# Altium footprint library 贴片.PcbLib: 190 footprints (part 6 of 13)
Each footprint in its own frame and in the unit in brackets; x right, y up, seen from the top. Pads: shape width x height; smd on the part's side, far side on the other; paste and mask are expansions set on the pad; w line width, h text height; cw(c..) or ccw(c..) is an arc to the next point about the centre after c.
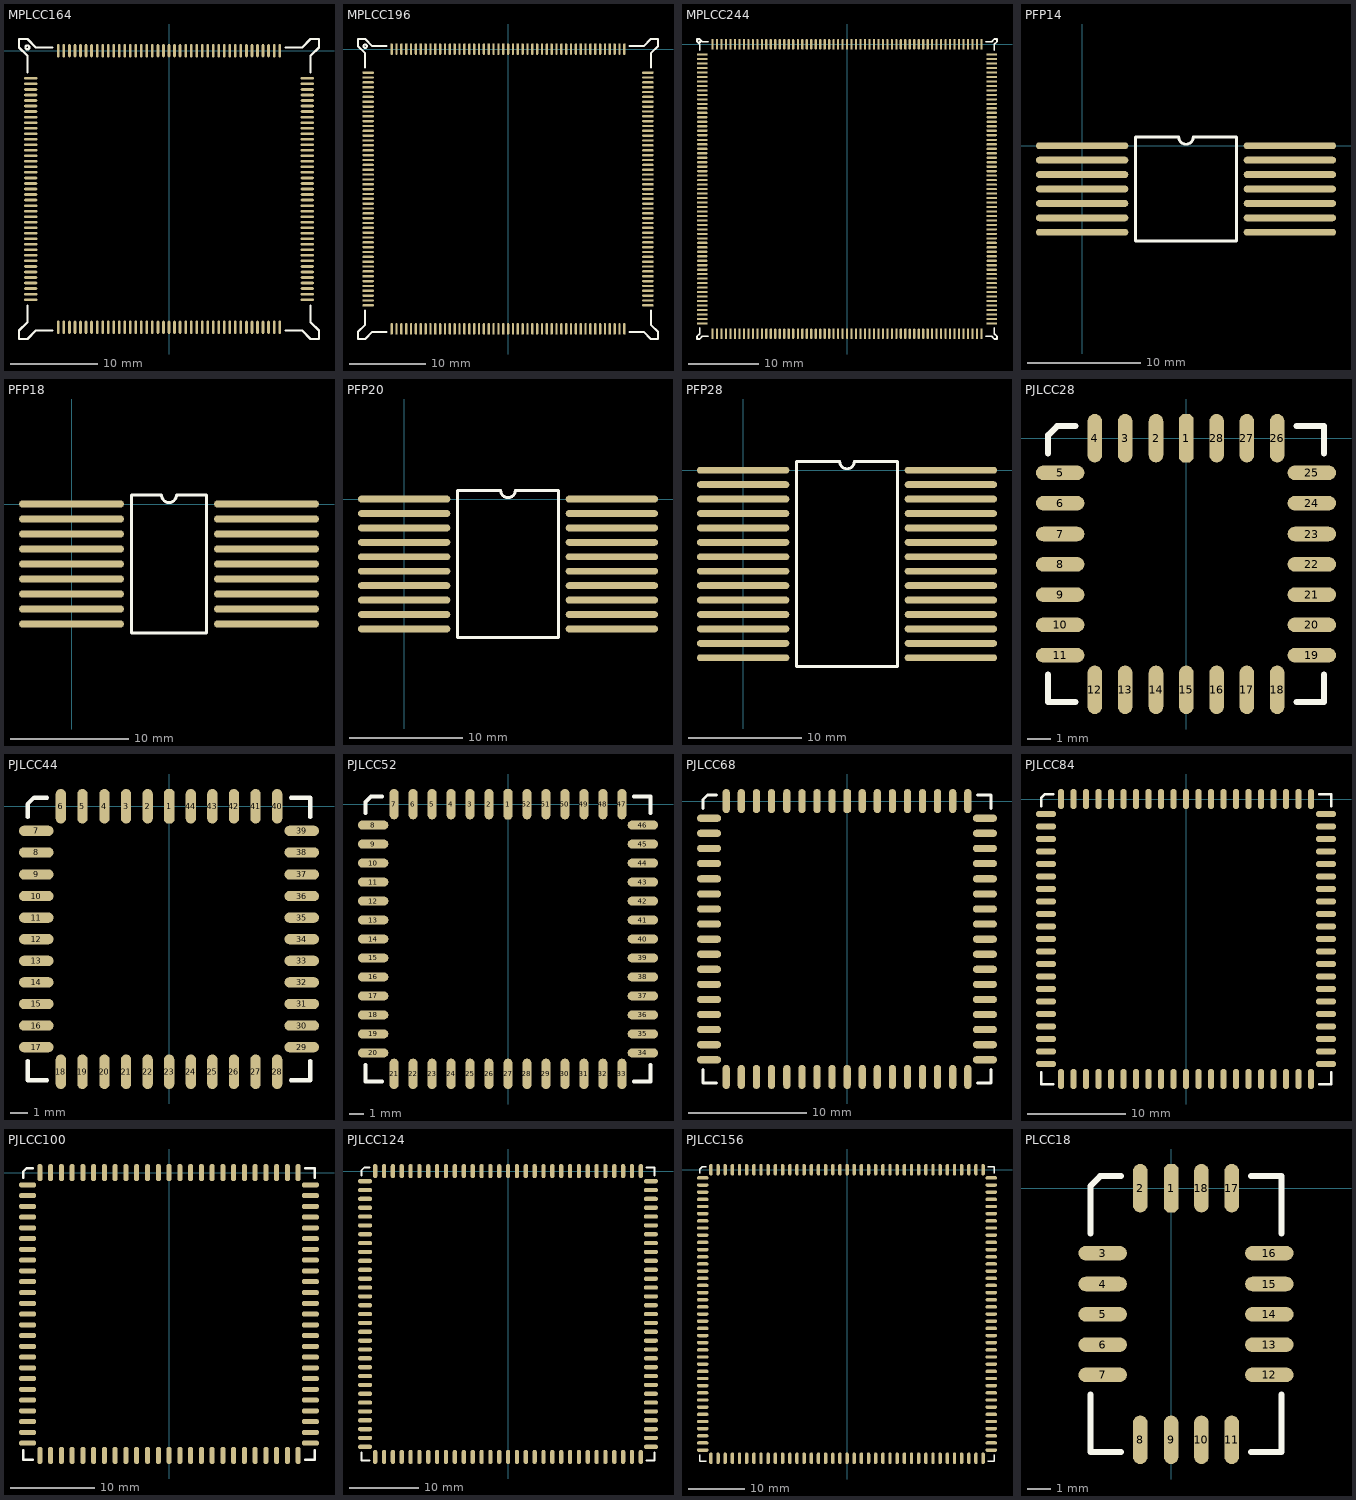
[diagram p5: the footprints below, top view; thin cyan lines are the x and y axes]

## MPLCC164 [mil]
pads (164):
  oval 12x60 smd: 1(0,0) 2(-25,0) 3(-50,0) 4(-75,0) 5(-100,0) 6(-125,0) 7(-150,0) 8(-175,0) 9(-200,0) 10(-225,0) 11(-250,0) 12(-275,0) 13(-300,0) 14(-325,0) 15(-350,0) 16(-375,0) 17(-400,0) 18(-425,0) 19(-450,0) 20(-475,0) 21(-500,0) 63(-500,-1250) 64(-475,-1250) 65(-450,-1250) 66(-425,-1250) 67(-400,-1250) 68(-375,-1250) 69(-350,-1250) 70(-325,-1250) 71(-300,-1250) 72(-275,-1250) 73(-250,-1250) 74(-225,-1250) 75(-200,-1250) 76(-175,-1250) 77(-150,-1250) 78(-125,-1250) 79(-100,-1250) 80(-75,-1250) 81(-50,-1250) 82(-25,-1250) 83(0,-1250) 84(25,-1250) 85(50,-1250) 86(75,-1250) 87(100,-1250) 88(125,-1250) 89(150,-1250) 90(175,-1250) 91(200,-1250) 92(225,-1250) 93(250,-1250) 94(275,-1250) 95(300,-1250) 96(325,-1250) 97(350,-1250) 98(375,-1250) 99(400,-1250) 100(425,-1250) 101(450,-1250) 102(475,-1250) 103(500,-1250) 145(500,0) 146(475,0) 147(450,0) 148(425,0) 149(400,0) 150(375,0) 151(350,0) 152(325,0) 153(300,0) 154(275,0) 155(250,0) 156(225,0) 157(200,0) 158(175,0) 159(150,0) 160(125,0) 161(100,0) 162(75,0) 163(50,0) 164(25,0)
  oval 60x12 smd: 22(-625,-125) 23(-625,-150) 24(-625,-175) 25(-625,-200) 26(-625,-225) 27(-625,-250) 28(-625,-275) 29(-625,-300) 30(-625,-325) 31(-625,-350) 32(-625,-375) 33(-625,-400) 34(-625,-425) 35(-625,-450) 36(-625,-475) 37(-625,-500) 38(-625,-525) 39(-625,-550) 40(-625,-575) 41(-625,-600) 42(-625,-625) 43(-625,-650) 44(-625,-675) 45(-625,-700) 46(-625,-725) 47(-625,-750) 48(-625,-775) 49(-625,-800) 50(-625,-825) 51(-625,-850) 52(-625,-875) 53(-625,-900) 54(-625,-925) 55(-625,-950) 56(-625,-975) 57(-625,-1000) 58(-625,-1025) 59(-625,-1050) 60(-625,-1075) 61(-625,-1100) 62(-625,-1125) 104(625,-1125) 105(625,-1100) 106(625,-1075) 107(625,-1050) 108(625,-1025) 109(625,-1000) 110(625,-975) 111(625,-950) 112(625,-925) 113(625,-900) 114(625,-875) 115(625,-850) 116(625,-825) 117(625,-800) 118(625,-775) 119(625,-750) 120(625,-725) 121(625,-700) 122(625,-675) 123(625,-650) 124(625,-625) 125(625,-600) 126(625,-575) 127(625,-550) 128(625,-525) 129(625,-500) 130(625,-475) 131(625,-450) 132(625,-425) 133(625,-400) 134(625,-375) 135(625,-350) 136(625,-325) 137(625,-300) 138(625,-275) 139(625,-250) 140(625,-225) 141(625,-200) 142(625,-175) 143(625,-150) 144(625,-125)
TopOverlay:
  circle w10: c-640,15 r9
  lines w10: -640,-1151 -640,-1227 -678,-1265 -678,-1303 -640,-1303 -602,-1265 -526,-1265 ; -640,-99 -640,-23 -678,15 -678,53 -640,53 -602,15 -526,15 ; 526,-1265 602,-1265 640,-1303 678,-1303 678,-1265 640,-1227 640,-1151 ; 526,15 602,15 640,53 678,53 678,15 640,-23 640,-99

## MPLCC196 [mil]
pads (196):
  oval 12x60 smd: 1(0,0) 2(-25,0) 3(-50,0) 4(-75,0) 5(-100,0) 6(-125,0) 7(-150,0) 8(-175,0) 9(-200,0) 10(-226,0) 11(-251,0) 12(-276,0) 13(-301,0) 14(-326,0) 15(-351,0) 16(-376,0) 17(-401,0) 18(-426,0) 19(-451,0) 20(-476,0) 21(-501,0) 22(-526,0) 23(-551,0) 24(-576,0) 25(-601,0) 75(-601,-1445) 76(-576,-1445) 77(-551,-1445) 78(-526,-1445) 79(-501,-1445) 80(-476,-1445) 81(-451,-1445) 82(-426,-1445) 83(-401,-1445) 84(-376,-1445) 85(-351,-1445) 86(-326,-1445) 87(-301,-1445) 88(-276,-1445) 89(-251,-1445) 90(-226,-1445) 91(-200,-1445) 92(-175,-1445) 93(-150,-1445) 94(-125,-1445) 95(-100,-1445) 96(-75,-1445) 97(-50,-1445) 98(-25,-1445) 99(0,-1445) 100(25,-1445) 101(50,-1445) 102(75,-1445) 103(100,-1445) 104(125,-1445) 105(150,-1445) 106(175,-1445) 107(200,-1445) 108(225,-1445) 109(250,-1445) 110(275,-1445) 111(300,-1445) 112(325,-1445) 113(350,-1445) 114(375,-1445) 115(400,-1445) 116(425,-1445) 117(450,-1445) 118(475,-1445) 119(500,-1445) 120(525,-1445) 121(550,-1445) 122(575,-1445) 123(600,-1445) 173(600,0) 174(575,0) 175(550,0) 176(525,0) 177(500,0) 178(475,0) 179(450,0) 180(425,0) 181(400,0) 182(375,0) 183(350,0) 184(325,0) 185(300,0) 186(275,0) 187(250,0) 188(225,0) 189(200,0) 190(175,0) 191(150,0) 192(125,0) 193(100,0) 194(75,0) 195(50,0) 196(25,0)
  oval 60x12 smd: 26(-723,-122) 27(-723,-147) 28(-723,-172) 29(-723,-197) 30(-723,-222) 31(-723,-247) 32(-723,-272) 33(-723,-297) 34(-723,-322) 35(-723,-347) 36(-723,-372) 37(-723,-397) 38(-723,-422) 39(-723,-447) 40(-723,-472) 41(-723,-497) 42(-723,-523) 43(-723,-548) 44(-723,-573) 45(-723,-598) 46(-723,-623) 47(-723,-648) 48(-723,-673) 49(-723,-698) 50(-723,-723) 51(-723,-748) 52(-723,-773) 53(-723,-798) 54(-723,-823) 55(-723,-848) 56(-723,-873) 57(-723,-898) 58(-723,-923) 59(-723,-948) 60(-723,-973) 61(-723,-998) 62(-723,-1023) 63(-723,-1048) 64(-723,-1073) 65(-723,-1098) 66(-723,-1123) 67(-723,-1148) 68(-723,-1173) 69(-723,-1198) 70(-723,-1223) 71(-723,-1248) 72(-723,-1273) 73(-723,-1298) 74(-723,-1323) 124(722,-1323) 125(722,-1298) 126(722,-1273) 127(722,-1248) 128(722,-1223) 129(722,-1198) 130(722,-1173) 131(722,-1148) 132(722,-1123) 133(722,-1098) 134(722,-1073) 135(722,-1048) 136(722,-1023) 137(722,-998) 138(722,-973) 139(722,-948) 140(722,-923) 141(722,-898) 142(722,-873) 143(722,-848) 144(722,-823) 145(722,-798) 146(722,-773) 147(722,-748) 148(722,-723) 149(722,-698) 150(722,-673) 151(722,-648) 152(722,-623) 153(722,-598) 154(722,-573) 155(722,-548) 156(722,-523) 157(722,-497) 158(722,-472) 159(722,-447) 160(722,-422) 161(722,-397) 162(722,-372) 163(722,-347) 164(722,-322) 165(722,-297) 166(722,-272) 167(722,-247) 168(722,-222) 169(722,-197) 170(722,-172) 171(722,-147) 172(722,-122)
TopOverlay:
  circle w10: c-738,15 r9
  lines w10: -738,-1349 -738,-1423 -775,-1460 -775,-1497 -738,-1497 -701,-1460 -627,-1460 ; -738,-96 -738,-22 -775,15 -775,52 -738,52 -701,15 -627,15 ; 626,-1460 700,-1460 737,-1497 774,-1497 774,-1460 737,-1423 737,-1349 ; 626,15 700,15 737,52 774,52 774,15 737,-22 737,-96

## MPLCC244 [mil]
pads (244):
  oval 12x60 smd: 1(0,0) 2(-25,0) 3(-50,0) 4(-75,0) 5(-100,0) 6(-125,0) 7(-150,0) 8(-175,0) 9(-200,0) 10(-225,0) 11(-250,0) 12(-275,0) 13(-301,0) 14(-326,0) 15(-351,0) 16(-376,0) 17(-401,0) 18(-426,0) 19(-451,0) 20(-476,0) 21(-501,0) 22(-526,0) 23(-551,0) 24(-576,0) 25(-601,0) 26(-626,0) 27(-651,0) 28(-676,0) 29(-701,0) 30(-726,0) 31(-751,0) 93(-751,-1615) 94(-726,-1615) 95(-701,-1615) 96(-676,-1615) 97(-651,-1615) 98(-626,-1615) 99(-601,-1615) 100(-576,-1615) 101(-551,-1615) 102(-526,-1615) 103(-501,-1615) 104(-476,-1615) 105(-451,-1615) 106(-426,-1615) 107(-401,-1615) 108(-376,-1615) 109(-351,-1615) 110(-326,-1615) 111(-301,-1615) 112(-275,-1615) 113(-250,-1615) 114(-225,-1615) 115(-200,-1615) 116(-175,-1615) 117(-150,-1615) 118(-125,-1615) 119(-100,-1615) 120(-75,-1615) 121(-50,-1615) 122(-25,-1615) 123(0,-1615) 124(25,-1615) 125(50,-1615) 126(75,-1615) 127(100,-1615) 128(125,-1615) 129(150,-1615) 130(175,-1615) 131(200,-1615) 132(225,-1615) 133(250,-1615) 134(275,-1615) 135(300,-1615) 136(325,-1615) 137(350,-1615) 138(375,-1615) 139(400,-1615) 140(425,-1615) 141(450,-1615) 142(475,-1615) 143(500,-1615) 144(525,-1615) 145(550,-1615) 146(575,-1615) 147(600,-1615) 148(625,-1615) 149(650,-1615) 150(675,-1615) 151(700,-1615) 152(725,-1615) 153(750,-1615) 215(750,0) 216(725,0) 217(700,0) 218(675,0) 219(650,0) 220(625,0) 221(600,0) 222(575,0) 223(550,0) 224(525,0) 225(500,0) 226(475,0) 227(450,0) 228(425,0) 229(400,0) 230(375,0) 231(350,0) 232(325,0) 233(300,0) 234(275,0) 235(250,0) 236(225,0) 237(200,0) 238(175,0) 239(150,0) 240(125,0) 241(100,0) 242(75,0) 243(50,0) 244(25,0)
  oval 60x12 smd: 32(-808,-57) 33(-808,-82) 34(-808,-107) 35(-808,-132) 36(-808,-157) 37(-808,-182) 38(-808,-207) 39(-808,-232) 40(-808,-257) 41(-808,-282) 42(-808,-307) 43(-808,-332) 44(-808,-357) 45(-808,-382) 46(-808,-407) 47(-808,-432) 48(-808,-457) 49(-808,-482) 50(-808,-507) 51(-808,-533) 52(-808,-558) 53(-808,-583) 54(-808,-608) 55(-808,-633) 56(-808,-658) 57(-808,-683) 58(-808,-708) 59(-808,-733) 60(-808,-758) 61(-808,-783) 62(-808,-808) 63(-808,-833) 64(-808,-858) 65(-808,-883) 66(-808,-908) 67(-808,-933) 68(-808,-958) 69(-808,-983) 70(-808,-1008) 71(-808,-1033) 72(-808,-1058) 73(-808,-1083) 74(-808,-1108) 75(-808,-1133) 76(-808,-1158) 77(-808,-1183) 78(-808,-1208) 79(-808,-1233) 80(-808,-1258) 81(-808,-1283) 82(-808,-1308) 83(-808,-1333) 84(-808,-1358) 85(-808,-1383) 86(-808,-1408) 87(-808,-1433) 88(-808,-1458) 89(-808,-1483) 90(-808,-1508) 91(-808,-1533) 92(-808,-1558) 154(807,-1558) 155(807,-1533) 156(807,-1508) 157(807,-1483) 158(807,-1458) 159(807,-1433) 160(807,-1408) 161(807,-1383) 162(807,-1358) 163(807,-1333) 164(807,-1308) 165(807,-1283) 166(807,-1258) 167(807,-1233) 168(807,-1208) 169(807,-1183) 170(807,-1158) 171(807,-1133) 172(807,-1108) 173(807,-1083) 174(807,-1058) 175(807,-1033) 176(807,-1008) 177(807,-983) 178(807,-958) 179(807,-933) 180(807,-908) 181(807,-883) 182(807,-858) 183(807,-833) 184(807,-808) 185(807,-783) 186(807,-758) 187(807,-733) 188(807,-708) 189(807,-683) 190(807,-658) 191(807,-633) 192(807,-608) 193(807,-583) 194(807,-558) 195(807,-533) 196(807,-507) 197(807,-482) 198(807,-457) 199(807,-432) 200(807,-407) 201(807,-382) 202(807,-357) 203(807,-332) 204(807,-307) 205(807,-282) 206(807,-257) 207(807,-232) 208(807,-207) 209(807,-182) 210(807,-157) 211(807,-132) 212(807,-107) 213(807,-82) 214(807,-57)
TopOverlay:
  circle w10: c-823,15 r3
  lines w10: -823,-1584 -823,-1615 -838,-1630 -838,-1645 -823,-1645 -808,-1630 -777,-1630 ; -823,-31 -823,0 -838,15 -838,30 -823,30 -808,15 -777,15 ; 776,-1630 807,-1630 822,-1645 837,-1645 837,-1630 822,-1615 822,-1584 ; 776,15 807,15 822,30 837,30 837,15 822,0 822,-31

## PFP14 [mil]
pads (14):
  oval 320x24 smd: 1(0,0) 2(0,-50) 3(0,-100) 4(0,-150) 5(0,-200) 6(0,-250) 7(0,-300) 8(720,-300) 9(720,-250) 10(720,-200) 11(720,-150) 12(720,-100) 13(720,-50) 14(720,0)
TopOverlay:
  lines w10: 185,-330 185,30 335,30 ccw(c360,30) 385,30 535,30 535,-330 185,-330

## PFP18 [mil]
pads (18):
  oval 350x24 smd: 1(0,0) 2(0,-50) 3(0,-100) 4(0,-150) 5(0,-200) 6(0,-250) 7(0,-300) 8(0,-350) 9(0,-400) 10(650,-400) 11(650,-350) 12(650,-300) 13(650,-250) 14(650,-200) 15(650,-150) 16(650,-100) 17(650,-50) 18(650,0)
TopOverlay:
  lines w10: 200,-430 200,30 300,30 ccw(c325,30) 350,30 450,30 450,-430 200,-430

## PFP20 [mil]
pads (20):
  oval 320x24 smd: 1(0,0) 2(0,-50) 3(0,-100) 4(0,-150) 5(0,-200) 6(0,-250) 7(0,-300) 8(0,-350) 9(0,-400) 10(0,-450) 11(720,-450) 12(720,-400) 13(720,-350) 14(720,-300) 15(720,-250) 16(720,-200) 17(720,-150) 18(720,-100) 19(720,-50) 20(720,0)
TopOverlay:
  lines w10: 185,-480 185,30 335,30 ccw(c360,30) 385,30 535,30 535,-480 185,-480

## PFP28 [mil]
pads (28):
  oval 320x24 smd: 1(0,0) 2(0,-50) 3(0,-100) 4(0,-150) 5(0,-200) 6(0,-250) 7(0,-300) 8(0,-350) 9(0,-400) 10(0,-450) 11(0,-500) 12(0,-550) 13(0,-600) 14(0,-650) 15(720,-650) 16(720,-600) 17(720,-550) 18(720,-500) 19(720,-450) 20(720,-400) 21(720,-350) 22(720,-300) 23(720,-250) 24(720,-200) 25(720,-150) 26(720,-100) 27(720,-50) 28(720,0)
TopOverlay:
  lines w10: 185,-680 535,-680 535,30 385,30 cw(c360,30) 335,30 185,30 185,-680

## PJLCC28 [mil]
pads (28):
  oct 24x80 smd: 1(0,0)
  oval 24x80 smd: 2(-50,0) 3(-101,0) 4(-151,0) 12(-151,-415) 13(-101,-415) 14(-50,-415) 15(0,-415) 16(50,-415) 17(100,-415) 18(150,-415) 26(150,0) 27(100,0) 28(50,0)
  oval 80x24 smd: 5(-208,-57) 6(-208,-107) 7(-208,-158) 8(-208,-208) 9(-208,-258) 10(-208,-308) 11(-208,-358) 19(207,-358) 20(207,-308) 21(207,-258) 22(207,-208) 23(207,-158) 24(207,-107) 25(207,-57)
TopOverlay:
  lines w10: -228,-390 -228,-435 -183,-435 ; -228,-25 -228,5 -213,20 -183,20 ; 182,-435 227,-435 227,-390 ; 182,20 227,20 227,-25

## PJLCC44 [mil]
pads (44):
  oct 24x80 smd: 1(0,0)
  oval 24x80 smd: 2(-50,0) 3(-100,0) 4(-150,0) 5(-201,0) 6(-251,0) 18(-251,-615) 19(-201,-615) 20(-150,-615) 21(-100,-615) 22(-50,-615) 23(0,-615) 24(50,-615) 25(100,-615) 26(150,-615) 27(200,-615) 28(250,-615) 40(250,0) 41(200,0) 42(150,0) 43(100,0) 44(50,0)
  oval 80x24 smd: 7(-308,-57) 8(-308,-107) 9(-308,-158) 10(-308,-208) 11(-308,-258) 12(-308,-308) 13(-308,-358) 14(-308,-408) 15(-308,-458) 16(-308,-508) 17(-308,-558) 29(307,-558) 30(307,-508) 31(307,-458) 32(307,-408) 33(307,-358) 34(307,-308) 35(307,-258) 36(307,-208) 37(307,-158) 38(307,-107) 39(307,-57)
TopOverlay:
  lines w10: -328,-590 -328,-635 -283,-635 ; -328,-25 -328,5 -313,20 -283,20 ; 282,-635 327,-635 327,-590 ; 282,20 327,20 327,-25

## PJLCC52 [mil]
pads (52):
  oct 24x80 smd: 1(0,0)
  oval 24x80 smd: 2(-50,0) 3(-100,0) 4(-150,0) 5(-200,0) 6(-250,0) 7(-300,0) 21(-300,-710) 22(-250,-710) 23(-200,-710) 24(-150,-710) 25(-100,-710) 26(-50,-710) 27(0,-710) 28(50,-710) 29(100,-710) 30(150,-710) 31(200,-710) 32(250,-710) 33(300,-710) 47(300,0) 48(250,0) 49(200,0) 50(150,0) 51(100,0) 52(50,0)
  oval 80x24 smd: 8(-355,-55) 9(-355,-105) 10(-355,-155) 11(-355,-205) 12(-355,-255) 13(-355,-305) 14(-355,-355) 15(-355,-405) 16(-355,-455) 17(-355,-505) 18(-355,-555) 19(-355,-605) 20(-355,-655) 34(355,-655) 35(355,-605) 36(355,-555) 37(355,-505) 38(355,-455) 39(355,-405) 40(355,-355) 41(355,-305) 42(355,-255) 43(355,-205) 44(355,-155) 45(355,-105) 46(355,-55)
TopOverlay:
  lines w10: -375,-687 -375,-730 -332,-730 ; -375,-23 -375,6 -361,20 -332,20 ; 332,-730 375,-730 375,-687 ; 332,20 375,20 375,-23

## PJLCC68 [mil]
pads (68):
  oct 24x80 smd: 1(0,0)
  oval 24x80 smd: 2(-50,0) 3(-100,0) 4(-150,0) 5(-200,0) 6(-251,0) 7(-301,0) 8(-351,0) 9(-401,0) 27(-401,-915) 28(-351,-915) 29(-301,-915) 30(-251,-915) 31(-200,-915) 32(-150,-915) 33(-100,-915) 34(-50,-915) 35(0,-915) 36(50,-915) 37(100,-915) 38(150,-915) 39(200,-915) 40(250,-915) 41(300,-915) 42(350,-915) 43(400,-915) 61(400,0) 62(350,0) 63(300,0) 64(250,0) 65(200,0) 66(150,0) 67(100,0) 68(50,0)
  oval 80x24 smd: 10(-458,-57) 11(-458,-107) 12(-458,-157) 13(-458,-207) 14(-458,-258) 15(-458,-308) 16(-458,-358) 17(-458,-408) 18(-458,-458) 19(-458,-508) 20(-458,-558) 21(-458,-608) 22(-458,-658) 23(-458,-708) 24(-458,-758) 25(-458,-808) 26(-458,-858) 44(457,-858) 45(457,-808) 46(457,-758) 47(457,-708) 48(457,-658) 49(457,-608) 50(457,-558) 51(457,-508) 52(457,-458) 53(457,-408) 54(457,-358) 55(457,-308) 56(457,-258) 57(457,-207) 58(457,-157) 59(457,-107) 60(457,-57)
TopOverlay:
  lines w10: -478,-890 -478,-935 -433,-935 ; -478,-25 -478,5 -463,20 -433,20 ; 432,-935 477,-935 477,-890 ; 432,20 477,20 477,-25

## PJLCC84 [mil]
pads (84):
  oct 24x80 smd: 1(0,0)
  oval 24x80 smd: 2(-50,0) 3(-100,0) 4(-150,0) 5(-200,0) 6(-250,0) 7(-300,0) 8(-350,0) 9(-400,0) 10(-450,0) 11(-500,0) 33(-500,-1120) 34(-450,-1120) 35(-400,-1120) 36(-350,-1120) 37(-300,-1120) 38(-250,-1120) 39(-200,-1120) 40(-150,-1120) 41(-100,-1120) 42(-50,-1120) 43(0,-1120) 44(50,-1120) 45(100,-1120) 46(150,-1120) 47(200,-1120) 48(250,-1120) 49(300,-1120) 50(350,-1120) 51(400,-1120) 52(450,-1120) 53(500,-1120) 75(500,0) 76(450,0) 77(400,0) 78(350,0) 79(300,0) 80(250,0) 81(200,0) 82(150,0) 83(100,0) 84(50,0)
  oval 80x24 smd: 12(-560,-60) 13(-560,-110) 14(-560,-160) 15(-560,-210) 16(-560,-260) 17(-560,-310) 18(-560,-360) 19(-560,-410) 20(-560,-460) 21(-560,-510) 22(-560,-560) 23(-560,-610) 24(-560,-660) 25(-560,-710) 26(-560,-760) 27(-560,-810) 28(-560,-860) 29(-560,-910) 30(-560,-960) 31(-560,-1010) 32(-560,-1060) 54(560,-1060) 55(560,-1010) 56(560,-960) 57(560,-910) 58(560,-860) 59(560,-810) 60(560,-760) 61(560,-710) 62(560,-660) 63(560,-610) 64(560,-560) 65(560,-510) 66(560,-460) 67(560,-410) 68(560,-360) 69(560,-310) 70(560,-260) 71(560,-210) 72(560,-160) 73(560,-110) 74(560,-60)
TopOverlay:
  lines w10: -580,-1092 -580,-1140 -532,-1140 ; -580,-28 -580,4 -564,20 -532,20 ; 532,-1140 580,-1140 580,-1092 ; 532,20 580,20 580,-28

## PJLCC100 [mil]
pads (100):
  oct 24x80 smd: 1(0,0)
  oval 24x80 smd: 2(-50,0) 3(-100,0) 4(-151,0) 5(-201,0) 6(-251,0) 7(-301,0) 8(-351,0) 9(-401,0) 10(-451,0) 11(-501,0) 12(-551,0) 13(-601,0) 39(-601,-1315) 40(-551,-1315) 41(-501,-1315) 42(-451,-1315) 43(-401,-1315) 44(-351,-1315) 45(-301,-1315) 46(-251,-1315) 47(-201,-1315) 48(-151,-1315) 49(-100,-1315) 50(-50,-1315) 51(0,-1315) 52(50,-1315) 53(100,-1315) 54(150,-1315) 55(200,-1315) 56(250,-1315) 57(300,-1315) 58(350,-1315) 59(400,-1315) 60(450,-1315) 61(500,-1315) 62(550,-1315) 63(600,-1315) 89(600,0) 90(550,0) 91(500,0) 92(450,0) 93(400,0) 94(350,0) 95(300,0) 96(250,0) 97(200,0) 98(150,0) 99(100,0) 100(50,0)
  oval 80x24 smd: 14(-658,-57) 15(-658,-107) 16(-658,-157) 17(-658,-207) 18(-658,-257) 19(-658,-307) 20(-658,-357) 21(-658,-407) 22(-658,-457) 23(-658,-507) 24(-658,-558) 25(-658,-608) 26(-658,-658) 27(-658,-708) 28(-658,-758) 29(-658,-808) 30(-658,-858) 31(-658,-908) 32(-658,-958) 33(-658,-1008) 34(-658,-1058) 35(-658,-1108) 36(-658,-1158) 37(-658,-1208) 38(-658,-1258) 64(657,-1258) 65(657,-1208) 66(657,-1158) 67(657,-1108) 68(657,-1058) 69(657,-1008) 70(657,-958) 71(657,-908) 72(657,-858) 73(657,-808) 74(657,-758) 75(657,-708) 76(657,-658) 77(657,-608) 78(657,-558) 79(657,-507) 80(657,-457) 81(657,-407) 82(657,-357) 83(657,-307) 84(657,-257) 85(657,-207) 86(657,-157) 87(657,-107) 88(657,-57)
TopOverlay:
  lines w10: -678,-1290 -678,-1335 -633,-1335 ; -678,-25 -678,5 -663,20 -633,20 ; 632,-1335 677,-1335 677,-1290 ; 632,20 677,20 677,-25

## PJLCC124 [mil]
pads (124):
  oct 24x80 smd: 1(0,0)
  oval 24x80 smd: 2(-50,0) 3(-100,0) 4(-150,0) 5(-200,0) 6(-250,0) 7(-301,0) 8(-351,0) 9(-401,0) 10(-451,0) 11(-501,0) 12(-551,0) 13(-601,0) 14(-651,0) 15(-701,0) 16(-751,0) 48(-751,-1615) 49(-701,-1615) 50(-651,-1615) 51(-601,-1615) 52(-551,-1615) 53(-501,-1615) 54(-451,-1615) 55(-401,-1615) 56(-351,-1615) 57(-301,-1615) 58(-250,-1615) 59(-200,-1615) 60(-150,-1615) 61(-100,-1615) 62(-50,-1615) 63(0,-1615) 64(50,-1615) 65(100,-1615) 66(150,-1615) 67(200,-1615) 68(250,-1615) 69(300,-1615) 70(350,-1615) 71(400,-1615) 72(450,-1615) 73(500,-1615) 74(550,-1615) 75(600,-1615) 76(650,-1615) 77(700,-1615) 78(750,-1615) 110(750,0) 111(700,0) 112(650,0) 113(600,0) 114(550,0) 115(500,0) 116(450,0) 117(400,0) 118(350,0) 119(300,0) 120(250,0) 121(200,0) 122(150,0) 123(100,0) 124(50,0)
  oval 80x24 smd: 17(-808,-57) 18(-808,-107) 19(-808,-157) 20(-808,-207) 21(-808,-257) 22(-808,-307) 23(-808,-357) 24(-808,-407) 25(-808,-457) 26(-808,-507) 27(-808,-558) 28(-808,-608) 29(-808,-658) 30(-808,-708) 31(-808,-758) 32(-808,-808) 33(-808,-858) 34(-808,-908) 35(-808,-958) 36(-808,-1008) 37(-808,-1058) 38(-808,-1108) 39(-808,-1158) 40(-808,-1208) 41(-808,-1258) 42(-808,-1308) 43(-808,-1358) 44(-808,-1408) 45(-808,-1458) 46(-808,-1508) 47(-808,-1558) 79(807,-1558) 80(807,-1508) 81(807,-1458) 82(807,-1408) 83(807,-1358) 84(807,-1308) 85(807,-1258) 86(807,-1208) 87(807,-1158) 88(807,-1108) 89(807,-1058) 90(807,-1008) 91(807,-958) 92(807,-908) 93(807,-858) 94(807,-808) 95(807,-758) 96(807,-708) 97(807,-658) 98(807,-608) 99(807,-558) 100(807,-507) 101(807,-457) 102(807,-407) 103(807,-357) 104(807,-307) 105(807,-257) 106(807,-207) 107(807,-157) 108(807,-107) 109(807,-57)
TopOverlay:
  lines w10: -828,-1590 -828,-1635 -783,-1635 ; -828,-25 -828,5 -813,20 -783,20 ; 782,-1635 827,-1635 827,-1590 ; 782,20 827,20 827,-25

## PJLCC156 [mil]
pads (156):
  oct 24x80 smd: 1(0,0)
  oval 24x80 smd: 2(-50,0) 3(-100,0) 4(-150,0) 5(-200,0) 6(-250,0) 7(-300,0) 8(-350,0) 9(-400,0) 10(-450,0) 11(-501,0) 12(-551,0) 13(-601,0) 14(-651,0) 15(-701,0) 16(-751,0) 17(-801,0) 18(-851,0) 19(-901,0) 20(-951,0) 60(-951,-2015) 61(-901,-2015) 62(-851,-2015) 63(-801,-2015) 64(-751,-2015) 65(-701,-2015) 66(-651,-2015) 67(-601,-2015) 68(-551,-2015) 69(-501,-2015) 70(-450,-2015) 71(-400,-2015) 72(-350,-2015) 73(-300,-2015) 74(-250,-2015) 75(-200,-2015) 76(-150,-2015) 77(-100,-2015) 78(-50,-2015) 79(0,-2015) 80(50,-2015) 81(100,-2015) 82(150,-2015) 83(200,-2015) 84(250,-2015) 85(300,-2015) 86(350,-2015) 87(400,-2015) 88(450,-2015) 89(500,-2015) 90(550,-2015) 91(600,-2015) 92(650,-2015) 93(700,-2015) 94(750,-2015) 95(800,-2015) 96(850,-2015) 97(900,-2015) 98(950,-2015) 138(950,0) 139(900,0) 140(850,0) 141(800,0) 142(750,0) 143(700,0) 144(650,0) 145(600,0) 146(550,0) 147(500,0) 148(450,0) 149(400,0) 150(350,0) 151(300,0) 152(250,0) 153(200,0) 154(150,0) 155(100,0) 156(50,0)
  oval 80x24 smd: 21(-1008,-57) 22(-1008,-107) 23(-1008,-157) 24(-1008,-207) 25(-1008,-257) 26(-1008,-307) 27(-1008,-357) 28(-1008,-407) 29(-1008,-457) 30(-1008,-507) 31(-1008,-558) 32(-1008,-608) 33(-1008,-658) 34(-1008,-708) 35(-1008,-758) 36(-1008,-808) 37(-1008,-858) 38(-1008,-908) 39(-1008,-958) 40(-1008,-1008) 41(-1008,-1058) 42(-1008,-1108) 43(-1008,-1158) 44(-1008,-1208) 45(-1008,-1258) 46(-1008,-1308) 47(-1008,-1358) 48(-1008,-1408) 49(-1008,-1458) 50(-1008,-1508) 51(-1008,-1558) 52(-1008,-1608) 53(-1008,-1658) 54(-1008,-1708) 55(-1008,-1758) 56(-1008,-1808) 57(-1008,-1858) 58(-1008,-1908) 59(-1008,-1958) 99(1007,-1958) 100(1007,-1908) 101(1007,-1858) 102(1007,-1808) 103(1007,-1758) 104(1007,-1708) 105(1007,-1658) 106(1007,-1608) 107(1007,-1558) 108(1007,-1508) 109(1007,-1458) 110(1007,-1408) 111(1007,-1358) 112(1007,-1308) 113(1007,-1258) 114(1007,-1208) 115(1007,-1158) 116(1007,-1108) 117(1007,-1058) 118(1007,-1008) 119(1007,-958) 120(1007,-908) 121(1007,-858) 122(1007,-808) 123(1007,-758) 124(1007,-708) 125(1007,-658) 126(1007,-608) 127(1007,-558) 128(1007,-507) 129(1007,-457) 130(1007,-407) 131(1007,-357) 132(1007,-307) 133(1007,-257) 134(1007,-207) 135(1007,-157) 136(1007,-107) 137(1007,-57)
TopOverlay:
  lines w10: -1028,-1990 -1028,-2035 -983,-2035 ; -1028,-25 -1028,5 -1013,20 -983,20 ; 982,-2035 1027,-2035 1027,-1990 ; 982,20 1027,20 1027,-25

## PLCC18 [mil]
pads (18):
  oct 24x80 smd: 1(0,0)
  oval 24x80 smd: 2(-51,0) 8(-51,-415) 9(0,-415) 10(50,-415) 11(100,-415) 17(100,0) 18(50,0)
  oval 80x24 smd: 3(-113,-107) 4(-113,-158) 5(-113,-208) 6(-113,-258) 7(-113,-308) 12(162,-308) 13(162,-258) 14(162,-208) 15(162,-158) 16(162,-107)
TopOverlay:
  lines w10: -133,-340 -133,-435 -83,-435 ; -133,-75 -133,4 -117,20 -83,20 ; 132,-435 182,-435 182,-340 ; 132,20 182,20 182,-75